# Altium footprint library MLACH0_9.PCBLIB: 97 footprints (part 4 of 7)
Each footprint in its own frame and in the unit in brackets; x right, y up, seen from the top. Pads: shape width x height; smd on the part's side, far side on the other; paste and mask are expansions set on the pad; w line width, h text height; cw(c..) or ccw(c..) is an arc to the next point about the centre after c.
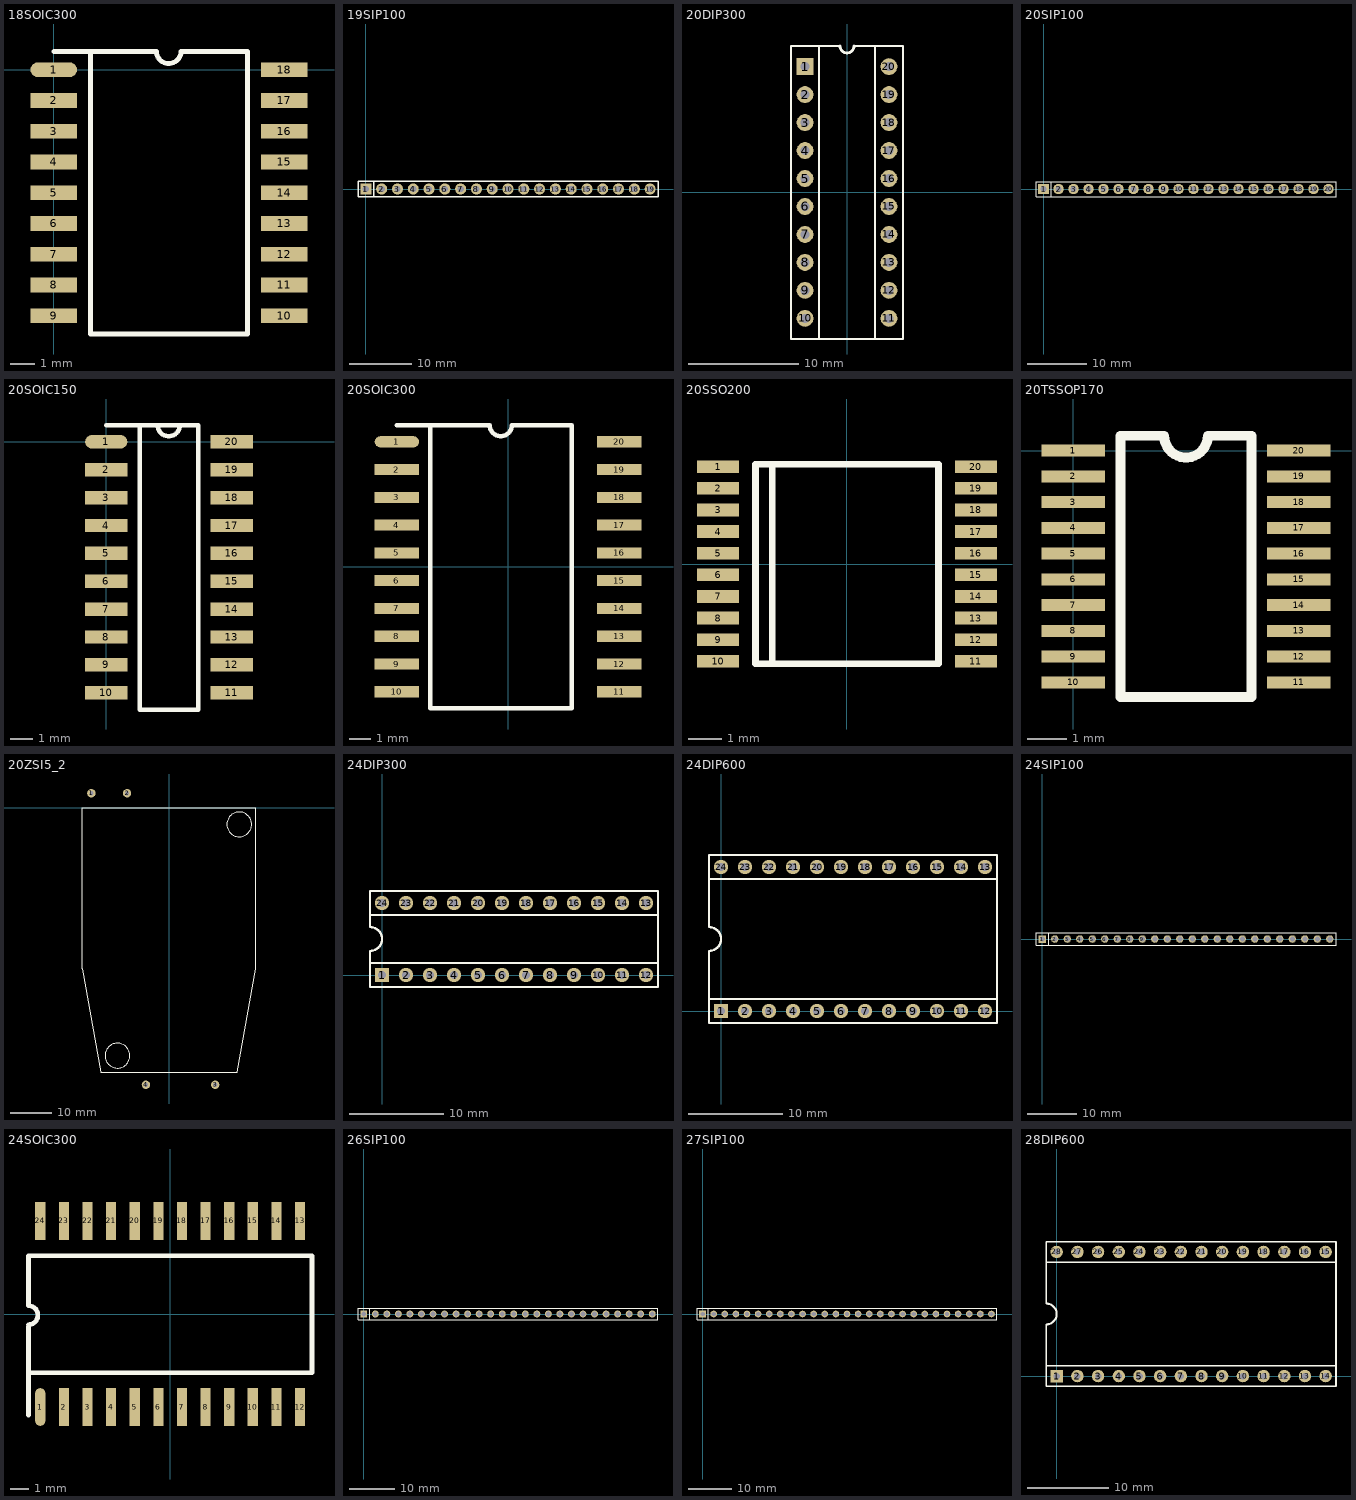
[diagram p3: the footprints below, top view; thin cyan lines are the x and y axes]

## 18SOIC300 [mil]
pads (18):
  oval 76x24 smd: 1(0,0)
  rect 76x24 smd: 2(0,-50) 3(0,-100) 4(0,-150) 5(0,-200) 6(0,-250) 7(0,-300) 8(0,-350) 9(0,-400) 10(375,-400) 11(375,-350) 12(375,-300) 13(375,-250) 14(375,-200) 15(375,-150) 16(375,-100) 17(375,-50) 18(375,0)
TopOverlay:
  lines w8: 0,30 167,30 ccw(c187,30) 207,30 315,30 315,-430 60,-430 60,30
3D body: height 31.5, standoff 0, extent -9.55,-8.07 33.76,7.68
3D body: height 31.5, standoff 0, extent -9.55,-58.07 33.76,-42.32
3D body: height 31.5, standoff 0, extent -9.55,-108.07 33.76,-92.32
3D body: height 31.5, standoff 0, extent -9.55,-158.07 33.76,-142.32
3D body: height 66.93, standoff 0, extent 33.76,-425.2 341.24,23.43
3D body: height 31.5, standoff 0, extent -9.55,-308.07 33.76,-292.32
3D body: height 31.5, standoff 0, extent -9.55,-258.07 33.76,-242.32
3D body: height 31.5, standoff 0, extent -9.55,-208.07 33.76,-192.32
3D body: height 31.5, standoff 0, extent -9.55,-358.07 33.76,-342.32
3D body: height 31.5, standoff 0, extent 341.24,-358.07 384.55,-342.32
3D body: height 31.5, standoff 0, extent 341.24,-208.07 384.55,-192.32
3D body: height 31.5, standoff 0, extent 341.24,-258.07 384.55,-242.32
3D body: height 31.5, standoff 0, extent 341.24,-308.07 384.55,-292.32
3D body: height 31.5, standoff 0, extent 341.24,-158.07 384.55,-142.32
3D body: height 31.5, standoff 0, extent 341.24,-108.07 384.55,-92.32
3D body: height 31.5, standoff 0, extent 341.24,-58.07 384.55,-42.32
3D body: height 31.5, standoff 0, extent 341.24,-8.07 384.55,7.68
3D body: height 31.5, standoff 0, extent 341.24,-408.07 384.55,-392.32
3D body: height 31.5, standoff 0, extent -9.55,-408.07 33.76,-392.32

## 19SIP100 [mil]
pads (19):
  rect 70x70 hole 40: 1(0,0)
  round 70 hole 40: 2(100,0) 3(200,0) 4(300,0) 5(400,0) 6(500,0) 7(600,0) 8(700,0) 9(800,0) 10(900,0) 11(1000,0) 12(1100,0) 13(1200,0) 14(1300,0) 15(1400,0) 16(1500,0) 17(1600,0) 18(1700,0) 19(1800,0)
TopOverlay:
  lines w8: 50,-50 50,50 ; -50,-50 -50,50 1850,50 1850,-50 -50,-50

## 20DIP300 [mil]
pads (20):
  rect 60x60 hole 32: 1(-150,450)
  round 60 hole 32: 2(-150,350) 3(-150,250) 4(-150,150) 5(-150,50) 6(-150,-50) 7(-150,-150) 8(-150,-250) 9(-150,-350) 10(-150,-450) 11(150,-450) 12(150,-350) 13(150,-250) 14(150,-150) 15(150,-50) 16(150,50) 17(150,150) 18(150,250) 19(150,350) 20(150,450)
TopOverlay:
  lines w8: -25,523.62 -100,523.62 ; 25,523.62 100,523.62 ; -100,-523.62 -200,-523.62 -200,523.62 -100,523.62 ; -100,-523.62 -100,523.62 ; -100,-523.62 100,-523.62 ; 100,-523.62 200,-523.62 200,523.62 100,523.62 ; 100,-523.62 100,523.62
  lines w10: -25,523.62 ccw(c0,523.62) 25,523.62
3D body: height 179.92, standoff -150, extent -153.94,-523.62 153.94,521.26

## 20SIP100 [mil]
pads (20):
  rect 70x70 hole 40: 1(0,0)
  round 70 hole 40: 2(100,0) 3(200,0) 4(300,0) 5(400,0) 6(500,0) 7(600,0) 8(700,0) 9(800,0) 10(900,0) 11(1000,0) 12(1100,0) 13(1200,0) 14(1300,0) 15(1400,0) 16(1500,0) 17(1600,0) 18(1700,0) 19(1800,0) 20(1900,0)
TopOverlay:
  lines w8: 50,-50 50,50 ; -50,-50 -50,50 1950,50 1950,-50 -50,-50

## 20SOIC150 [mil]
pads (20):
  oval 76x24 smd: 1(0,0)
  rect 76x24 smd: 2(0,-50) 3(0,-100) 4(0,-150) 5(0,-200) 6(0,-250) 7(0,-300) 8(0,-350) 9(0,-400) 10(0,-450) 11(225,-450) 12(225,-400) 13(225,-350) 14(225,-300) 15(225,-250) 16(225,-200) 17(225,-150) 18(225,-100) 19(225,-50) 20(225,0)
TopOverlay:
  lines w8: 0,30 165,30 165,-480 60,-480 60,30 ; 92,30 ccw(c112,30) 132,30
3D body: height 31.5, standoff 0, extent 191.24,-408.07 234.55,-392.32
3D body: height 31.5, standoff 0, extent -9.55,-408.07 33.76,-392.32
3D body: height 31.5, standoff 0, extent -9.55,-458.07 33.76,-442.32
3D body: height 31.5, standoff 0, extent 191.24,-458.07 234.55,-442.32
3D body: height 31.5, standoff 0, extent 191.24,-358.07 234.55,-342.32
3D body: height 31.5, standoff 0, extent -9.55,-358.07 33.76,-342.32
3D body: height 31.5, standoff 0, extent -9.55,-208.07 33.76,-192.32
3D body: height 31.5, standoff 0, extent -9.55,-258.07 33.76,-242.32
3D body: height 31.5, standoff 0, extent -9.55,-308.07 33.76,-292.32
3D body: height 31.5, standoff 0, extent 191.24,-308.07 234.55,-292.32
3D body: height 31.5, standoff 0, extent 191.24,-258.07 234.55,-242.32
3D body: height 31.5, standoff 0, extent 191.24,-208.07 234.55,-192.32
3D body: height 66.93, standoff 0, extent 33.76,-472.44 191.24,23.43
3D body: height 31.5, standoff 0, extent 191.24,-8.07 234.55,7.68
3D body: height 31.5, standoff 0, extent 191.24,-58.07 234.55,-42.32
3D body: height 31.5, standoff 0, extent 191.24,-108.07 234.55,-92.32
3D body: height 31.5, standoff 0, extent 191.24,-158.07 234.55,-142.32
3D body: height 31.5, standoff 0, extent -9.55,-158.07 33.76,-142.32
3D body: height 31.5, standoff 0, extent -9.55,-108.07 33.76,-92.32
3D body: height 31.5, standoff 0, extent -9.55,-58.07 33.76,-42.32
3D body: height 31.5, standoff 0, extent -9.55,-8.07 33.76,7.68

## 20SOIC300 [mil]
pads (20):
  oval 80x20 smd: 1(-200,225)
  rect 80x20 smd: 2(-200,175) 3(-200,125) 4(-200,75) 5(-200,25) 6(-200,-25) 7(-200,-75) 8(-200,-125) 9(-200,-175) 10(-200,-225) 11(200,-225) 12(200,-175) 13(200,-125) 14(200,-75) 15(200,-25) 16(200,25) 17(200,75) 18(200,125) 19(200,175) 20(200,225)
TopOverlay:
  lines w8: -200,255 -33,255 ccw(c-13,255) 7,255 115,255 115,-255 -140,-255 -140,255
3D body: height 31.5, standoff 0, extent -197.74,216.93 -154.43,232.68
3D body: height 31.5, standoff 0, extent -197.74,166.93 -154.43,182.68
3D body: height 31.5, standoff 0, extent -197.74,116.93 -154.43,132.68
3D body: height 31.5, standoff 0, extent -197.74,66.93 -154.43,82.68
3D body: height 66.93, standoff 0, extent -154.43,-251.38 153.05,248.43
3D body: height 31.5, standoff 0, extent -197.74,-83.07 -154.43,-67.32
3D body: height 31.5, standoff 0, extent -197.74,-33.07 -154.43,-17.32
3D body: height 31.5, standoff 0, extent -197.74,16.93 -154.43,32.68
3D body: height 31.5, standoff 0, extent -197.74,-133.07 -154.43,-117.32
3D body: height 31.5, standoff 0, extent 153.05,-133.07 196.36,-117.32
3D body: height 31.5, standoff 0, extent 153.05,16.93 196.36,32.68
3D body: height 31.5, standoff 0, extent 153.05,-33.07 196.36,-17.32
3D body: height 31.5, standoff 0, extent 153.05,-83.07 196.36,-67.32
3D body: height 31.5, standoff 0, extent 153.05,66.93 196.36,82.68
3D body: height 31.5, standoff 0, extent 153.05,116.93 196.36,132.68
3D body: height 31.5, standoff 0, extent 153.05,166.93 196.36,182.68
3D body: height 31.5, standoff 0, extent 153.05,216.93 196.36,232.68
3D body: height 31.5, standoff 0, extent 153.05,-183.07 196.36,-167.32
3D body: height 31.5, standoff 0, extent -197.74,-183.07 -154.43,-167.32
3D body: height 31.5, standoff 0, extent -197.74,-233.07 -154.43,-217.32
3D body: height 31.5, standoff 0, extent 153.05,-233.07 196.36,-217.32

## 20SSO200 [mm]
pads (20):
  rect 1.27x0.381 smd: 1(-3.875,2.925) 2(-3.875,2.275) 3(-3.875,1.625) 4(-3.875,0.975) 5(-3.875,0.325) 6(-3.875,-0.325) 7(-3.875,-0.975) 8(-3.875,-1.625) 9(-3.875,-2.275) 10(-3.875,-2.925) 11(3.875,-2.925) 12(3.875,-2.275) 13(3.875,-1.625) 14(3.875,-0.975) 15(3.875,-0.325) 16(3.875,0.325) 17(3.875,0.975) 18(3.875,1.625) 19(3.875,2.275) 20(3.875,2.925)
TopOverlay:
  lines w0.203: -2.25,-3 -2.25,3 ; -2.75,-3 -2.75,3 2.75,3 2.75,-3 -2.75,-3

## 20TSSOP170 [mm]
pads (20):
  rect 1.6x0.3 smd: 1(0,0) 2(0,-0.65) 3(0,-1.3) 4(0,-1.95) 5(0,-2.6) 6(0,-3.25) 7(0,-3.9) 8(0,-4.55) 9(0,-5.2) 10(0,-5.85) 11(5.7,-5.85) 12(5.7,-5.2) 13(5.7,-4.55) 14(5.7,-3.9) 15(5.7,-3.25) 16(5.7,-2.6) 17(5.7,-1.95) 18(5.7,-1.3) 19(5.7,-0.65) 20(5.7,0)
TopOverlay:
  lines w0.25: 1.2,-6.225 4.5,-6.225 4.5,0.375 3.4,0.375 cw(c2.85,0.375) 2.3,0.375 1.2,0.375 1.2,-6.225

## 20ZSI5_2 [mil]
pads (4):
  round 80 hole 40: 1(-740,140) 2(-400,140) 3(440,-2640) 4(-220,-2640)
TopOverlay:
  circle w10: c669.29,-157.48 r118.11
  circle w10: c-492.13,-2362.2 r118.11
  lines w10: -826.77,-1535.43 -649.61,-2519.68 649.61,-2519.68 826.77,-1535.43 826.77,0 -826.77,0 -826.77,-1535.43

## 24DIP300 [mil]
pads (24):
  rect 60x60 hole 32: 1(0,0)
  round 60 hole 32: 2(100,0) 3(200,0) 4(300,0) 5(400,0) 6(500,0) 7(600,0) 8(700,0) 9(800,0) 10(900,0) 11(1000,0) 12(1100,0) 13(1100,300) 14(1000,300) 15(900,300) 16(800,300) 17(700,300) 18(600,300) 19(500,300) 20(400,300) 21(300,300) 22(200,300) 23(100,300) 24(0,300)
TopOverlay:
  lines w8: -50,250 1150,250 1150,350 ; -50,350 1150,350 ; 1150,50 1150,350 ; 1150,50 -50,50 -50,-50 1150,-50 1150,50
  lines w10: -50,50 -50,100 ccw(c-50,150) -50,200 -50,350

## 24DIP600 [mil]
pads (24):
  rect 60x60 hole 32: 1(0,0)
  round 60 hole 32: 2(100,0) 3(200,0) 4(300,0) 5(400,0) 6(500,0) 7(600,0) 8(700,0) 9(800,0) 10(900,0) 11(1000,0) 12(1100,0) 13(1100,600) 14(1000,600) 15(900,600) 16(800,600) 17(700,600) 18(600,600) 19(500,600) 20(400,600) 21(300,600) 22(200,600) 23(100,600) 24(0,600)
TopOverlay:
  lines w8: -50,250 -50,50 ; -50,350 -50,550 ; -50,50 -50,-50 1150,-50 1150,50 ; -50,50 1150,50 ; -50,550 -50,650 1150,650 1150,550 ; -50,550 1150,550 ; 1150,50 1150,550
  lines w10: -50,250 ccw(c-50,300) -50,350

## 24SIP100 [mil]
pads (24):
  rect 60x60 hole 40: 1(0,0)
  round 60 hole 40: 2(100,0) 3(200,0) 4(300,0) 5(400,0) 6(500,0) 7(600,0) 8(700,0) 9(800,0) 10(900,0) 11(1000,0) 12(1100,0) 13(1200,0) 14(1300,0) 15(1400,0) 16(1500,0) 17(1600,0) 18(1700,0) 19(1800,0) 20(1900,0) 21(2000,0) 22(2100,0) 23(2200,0) 24(2300,0)
TopOverlay:
  lines w10: 50,-50 50,50 ; -50,-50 2350,-50 2350,50 -50,50 -50,-50

## 24SOIC300 [mm]
pads (24):
  oval 0.55x2.032 smd: 1(-6.985,-5)
  rect 0.55x2.032 smd: 2(-5.715,-5) 3(-4.445,-5) 4(-3.175,-5) 5(-1.905,-5) 6(-0.635,-5) 7(0.635,-5) 8(1.905,-5) 9(3.175,-5) 10(4.445,-5) 11(5.715,-5) 12(6.985,-5) 13(6.985,5) 14(5.715,5) 15(4.445,5) 16(3.175,5) 17(1.905,5) 18(0.635,5) 19(-0.635,5) 20(-1.905,5) 21(-3.175,5) 22(-4.445,5) 23(-5.715,5) 24(-6.985,5)
TopOverlay:
  lines w0.254: -7.62,-5.45 -7.62,-0.699 ; -7.62,-3.163 7.62,-3.163 7.62,3.137 -7.62,3.137 -7.62,0.445 cw(c-7.62,-0.064) -7.62,-0.572
3D body: height 0.8, standoff 0, extent -7.18,-5.005 -6.78,-3.905
3D body: height 0.8, standoff 0, extent -5.91,-5.005 -5.51,-3.905
3D body: height 0.8, standoff 0, extent -4.64,-5.005 -4.24,-3.905
3D body: height 0.8, standoff 0, extent -3.37,-5.005 -2.97,-3.905
3D body: height 1.7, standoff 0, extent -7.58,-3.905 7.615,3.905
3D body: height 0.8, standoff 0, extent 0.44,-5.005 0.84,-3.905
3D body: height 0.8, standoff 0, extent -0.83,-5.005 -0.43,-3.905
3D body: height 0.8, standoff 0, extent -2.1,-5.005 -1.7,-3.905
3D body: height 0.8, standoff 0, extent 1.71,-5.005 2.11,-3.905
3D body: height 0.8, standoff 0, extent 1.71,3.905 2.11,5.005
3D body: height 0.8, standoff 0, extent -2.1,3.905 -1.7,5.005
3D body: height 0.8, standoff 0, extent -0.83,3.905 -0.43,5.005
3D body: height 0.8, standoff 0, extent 0.44,3.905 0.84,5.005
3D body: height 0.8, standoff 0, extent -3.37,3.905 -2.97,5.005
3D body: height 0.8, standoff 0, extent -4.64,3.905 -4.24,5.005
3D body: height 0.8, standoff 0, extent -5.91,3.905 -5.51,5.005
3D body: height 0.8, standoff 0, extent -7.18,3.905 -6.78,5.005
3D body: height 0.8, standoff 0, extent 2.98,3.905 3.38,5.005
3D body: height 0.8, standoff 0, extent 2.98,-5.005 3.38,-3.905
3D body: height 0.8, standoff 0, extent 4.25,-5.005 4.65,-3.905
3D body: height 0.8, standoff 0, extent 4.25,3.905 4.65,5.005
3D body: height 0.8, standoff 0, extent 6.79,3.905 7.19,5.005
3D body: height 0.8, standoff 0, extent 6.79,-5.005 7.19,-3.905
3D body: height 0.8, standoff 0, extent 5.52,-5.005 5.92,-3.905
3D body: height 0.8, standoff 0, extent 5.52,3.905 5.92,5.005

## 26SIP100 [mil]
pads (26):
  rect 60x60 hole 40: 1(0,0)
  round 60 hole 40: 2(100,0) 3(200,0) 4(300,0) 5(400,0) 6(500,0) 7(600,0) 8(700,0) 9(800,0) 10(900,0) 11(1000,0) 12(1100,0) 13(1200,0) 14(1300,0) 15(1400,0) 16(1500,0) 17(1600,0) 18(1700,0) 19(1800,0) 20(1900,0) 21(2000,0) 22(2100,0) 23(2200,0) 24(2300,0) 25(2400,0) 26(2500,0)
TopOverlay:
  lines w10: 50,-50 50,50 ; -50,-50 2550,-50 2550,50 -50,50 -50,-50

## 27SIP100 [mil]
pads (27):
  rect 60x60 hole 40: 1(0,0)
  round 60 hole 40: 2(100,0) 3(200,0) 4(300,0) 5(400,0) 6(500,0) 7(600,0) 8(700,0) 9(800,0) 10(900,0) 11(1000,0) 12(1100,0) 13(1200,0) 14(1300,0) 15(1400,0) 16(1500,0) 17(1600,0) 18(1700,0) 19(1800,0) 20(1900,0) 21(2000,0) 22(2100,0) 23(2200,0) 24(2300,0) 25(2400,0) 26(2500,0) 27(2600,0)
TopOverlay:
  lines w10: 50,-50 50,50 ; -50,-50 2650,-50 2650,50 -50,50 -50,-50

## 28DIP600 [mil]
pads (28):
  rect 60x60 hole 32: 1(0,0)
  round 60 hole 32: 2(100,0) 3(200,0) 4(300,0) 5(400,0) 6(500,0) 7(600,0) 8(700,0) 9(800,0) 10(900,0) 11(1000,0) 12(1100,0) 13(1200,0) 14(1300,0) 15(1300,600) 16(1200,600) 17(1100,600) 18(1000,600) 19(900,600) 20(800,600) 21(700,600) 22(600,600) 23(500,600) 24(400,600) 25(300,600) 26(200,600) 27(100,600) 28(0,600)
TopOverlay:
  lines w8: -50,250 -50,50 ; -50,350 -50,550 ; -50,50 -50,-50 1350,-50 1350,50 ; -50,50 1350,50 ; -50,550 -50,650 1350,650 1350,550 ; -50,550 1350,550 ; 1350,50 1350,550
  lines w10: -50,250 ccw(c-50,300) -50,350